# Altium footprint library My Library.PcbLib: 161 footprints (part 11 of 11)
Each footprint in its own frame and in the unit in brackets; x right, y up, seen from the top. Pads: shape width x height; smd on the part's side, far side on the other; paste and mask are expansions set on the pad; w line width, h text height; cw(c..) or ccw(c..) is an arc to the next point about the centre after c.
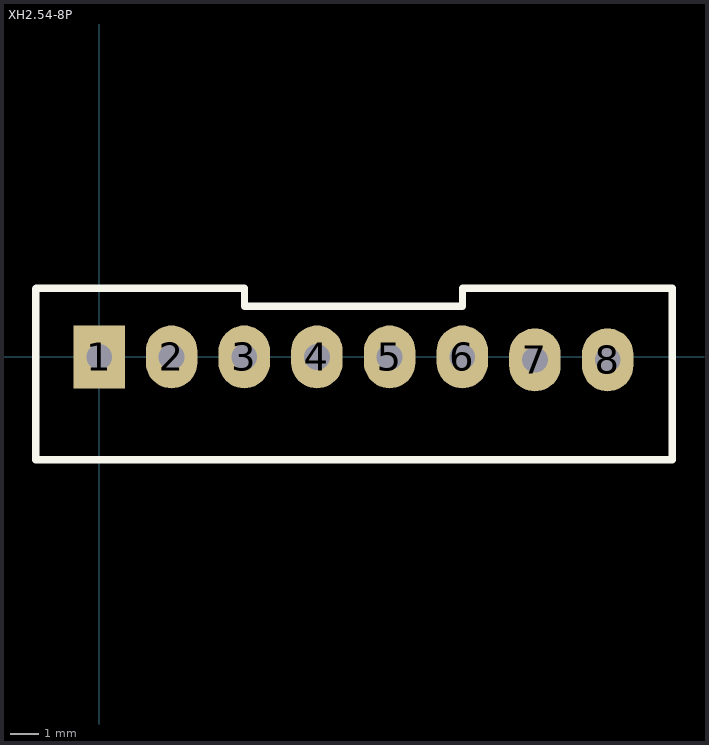
[diagram p10: the footprint, top view; thin cyan lines are the x and y axes]

## XH2.54-8P [mm]
height 5
pads (8):
  rect 1.8x2.2 hole 0.9: 1(0,0)
  oval 1.8x2.2 hole 0.9: 2(2.53,0) 3(5.07,0) 4(7.61,0) 5(10.15,0) 6(12.69,0) 7(15.23,-0.1) 8(17.77,-0.1)
Top Overlay:
  lines w0.25: -2.214,-3.59 20.025,-3.59 20.025,2.4 12.7,2.4 12.7,1.775 5.075,1.775 5.075,2.4 -2.2,2.4 -2.214,2.386 -2.214,-3.59
3D body: height 5, standoff 0, extent -2.225,-3.6 20.025,2.425